# EAGLE library part XT65 (library epic)
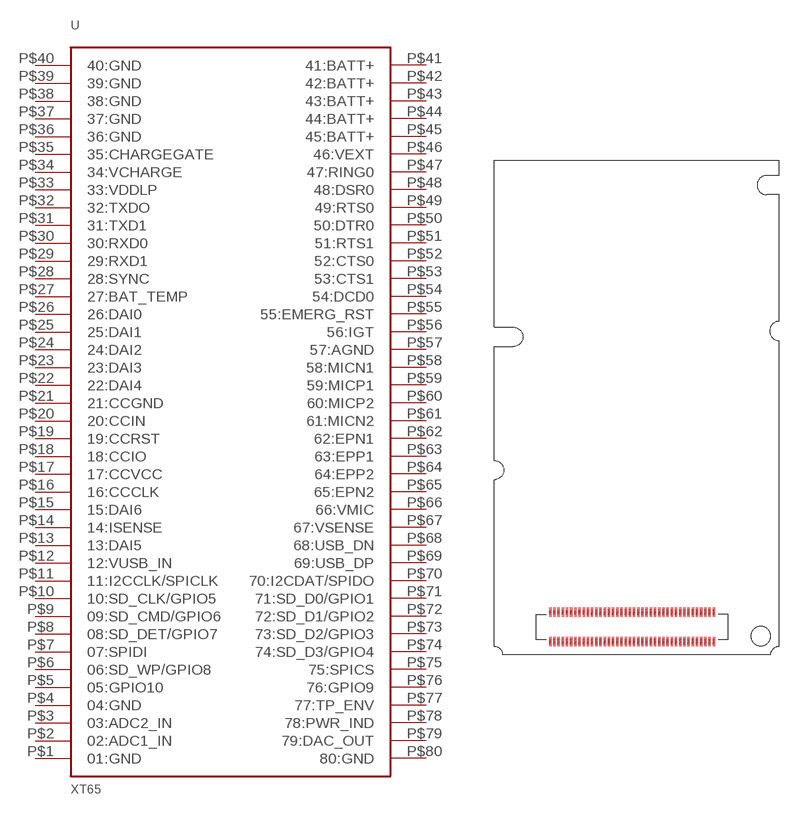
[diagram p13: symbol with the pads of XT65; footprint XT65]

Designator prefix U

## XT65  [XT65]
P$1  01:GND
P$2  02:ADC1_IN
P$3  03:ADC2_IN
P$4  04:GND
P$5  05:GPIO10
P$6  06:SD_WP/GPIO8
P$7  07:SPIDI
P$8  08:SD_DET/GPIO7
P$9  09:SD_CMD/GPIO6
P$10  10:SD_CLK/GPIO5
P$11  11:I2CCLK/SPICLK
P$12  12:VUSB_IN
P$13  13:DAI5
P$14  14:ISENSE
P$15  15:DAI6
P$16  16:CCCLK
P$17  17:CCVCC
P$18  18:CCIO
P$19  19:CCRST
P$20  20:CCIN
P$21  21:CCGND
P$22  22:DAI4
P$23  23:DAI3
P$24  24:DAI2
P$25  25:DAI1
P$26  26:DAI0
P$27  27:BAT_TEMP
P$28  28:SYNC
P$29  29:RXD1
P$30  30:RXD0
P$31  31:TXD1
P$32  32:TXDO
P$33  33:VDDLP
P$34  34:VCHARGE
P$35  35:CHARGEGATE
P$36  36:GND
P$37  37:GND
P$38  38:GND
P$39  39:GND
P$40  40:GND
P$41  41:BATT+
P$42  42:BATT+
P$43  43:BATT+
P$44  44:BATT+
P$45  45:BATT+
P$46  46:VEXT
P$47  47:RING0
P$48  48:DSR0
P$49  49:RTS0
P$50  50:DTR0
P$51  51:RTS1
P$52  52:CTS0
P$53  53:CTS1
P$54  54:DCD0
P$55  55:EMERG_RST
P$56  56:IGT
P$57  57:AGND
P$58  58:MICN1
P$59  59:MICP1
P$60  60:MICP2
P$61  61:MICN2
P$62  62:EPN1
P$63  63:EPP1
P$64  64:EPP2
P$65  65:EPN2
P$66  66:VMIC
P$67  67:VSENSE
P$68  68:USB_DN
P$69  69:USB_DP
P$70  70:I2CDAT/SPIDO
P$71  71:SD_D0/GPIO1
P$72  72:SD_D1/GPIO2
P$73  73:SD_D2/GPIO3
P$74  74:SD_D3/GPIO4
P$75  75:SPICS
P$76  76:GPIO9
P$77  77:TP_ENV
P$78  78:PWR_IND
P$79  79:DAC_OUT
P$80  80:GND

## Footprint XT65 (pad centres in mm)
smd 0.3 x 1.1: P$1 -9.75,1.75; P$2 -9.25,1.75; P$3 -8.75,1.75; P$4 -8.25,1.75; P$5 -7.75,1.75; P$6 -7.25,1.75; P$7 -6.75,1.75; P$8 -6.25,1.75; P$9 -5.75,1.75; P$10 -5.25,1.75; P$11 -4.75,1.75; P$12 -4.25,1.75; P$13 -3.75,1.75; P$14 -3.25,1.75; P$15 -2.75,1.75; P$16 -2.25,1.75; P$17 -1.75,1.75; P$18 -1.25,1.75; P$19 -0.75,1.75; P$20 -0.25,1.75; P$21 0.25,1.75; P$22 0.75,1.75; P$23 1.25,1.75; P$24 1.75,1.75; P$25 2.25,1.75; P$26 2.75,1.75; P$27 3.25,1.75; P$28 3.75,1.75; P$29 4.25,1.75; P$30 4.75,1.75; P$31 5.25,1.75; P$32 5.75,1.75; P$33 6.25,1.75; P$34 6.75,1.75; P$35 7.25,1.75; P$36 7.75,1.75; P$37 8.25,1.75; P$38 8.75,1.75; P$39 9.25,1.75; P$40 9.75,1.75; P$41 9.75,-1.75; P$42 9.25,-1.75; P$43 8.75,-1.75; P$44 8.25,-1.75; P$45 7.75,-1.75; P$46 7.25,-1.75; P$47 6.75,-1.75; P$48 6.25,-1.75; P$49 5.75,-1.75; P$50 5.25,-1.75; P$51 4.75,-1.75; P$52 4.25,-1.75; P$53 3.75,-1.75; P$54 3.25,-1.75; P$55 2.75,-1.75; P$56 2.25,-1.75; P$57 1.75,-1.75; P$58 1.25,-1.75; P$59 0.75,-1.75; P$60 0.25,-1.75; P$61 -0.25,-1.75; P$62 -0.75,-1.75; P$63 -1.25,-1.75; P$64 -1.75,-1.75; P$65 -2.25,-1.75; P$66 -2.75,-1.75; P$67 -3.25,-1.75; P$68 -3.75,-1.75; P$69 -4.25,-1.75; P$70 -4.75,-1.75; P$71 -5.25,-1.75; P$72 -5.75,-1.75; P$73 -6.25,-1.75; P$74 -6.75,-1.75; P$75 -7.25,-1.75; P$76 -7.75,-1.75; P$77 -8.25,-1.75; P$78 -8.75,-1.75; P$79 -9.25,-1.75; P$80 -9.75,-1.75
hole 2.3 at 15.35,-1.1